# Altium footprint library PcbLib1.PcbLib: 36 footprints (part 1 of 3)
Each footprint in its own frame and in the unit in brackets; x right, y up, seen from the top. Pads: shape width x height; smd on the part's side, far side on the other; paste and mask are expansions set on the pad; w line width, h text height; cw(c..) or ccw(c..) is an arc to the next point about the centre after c.
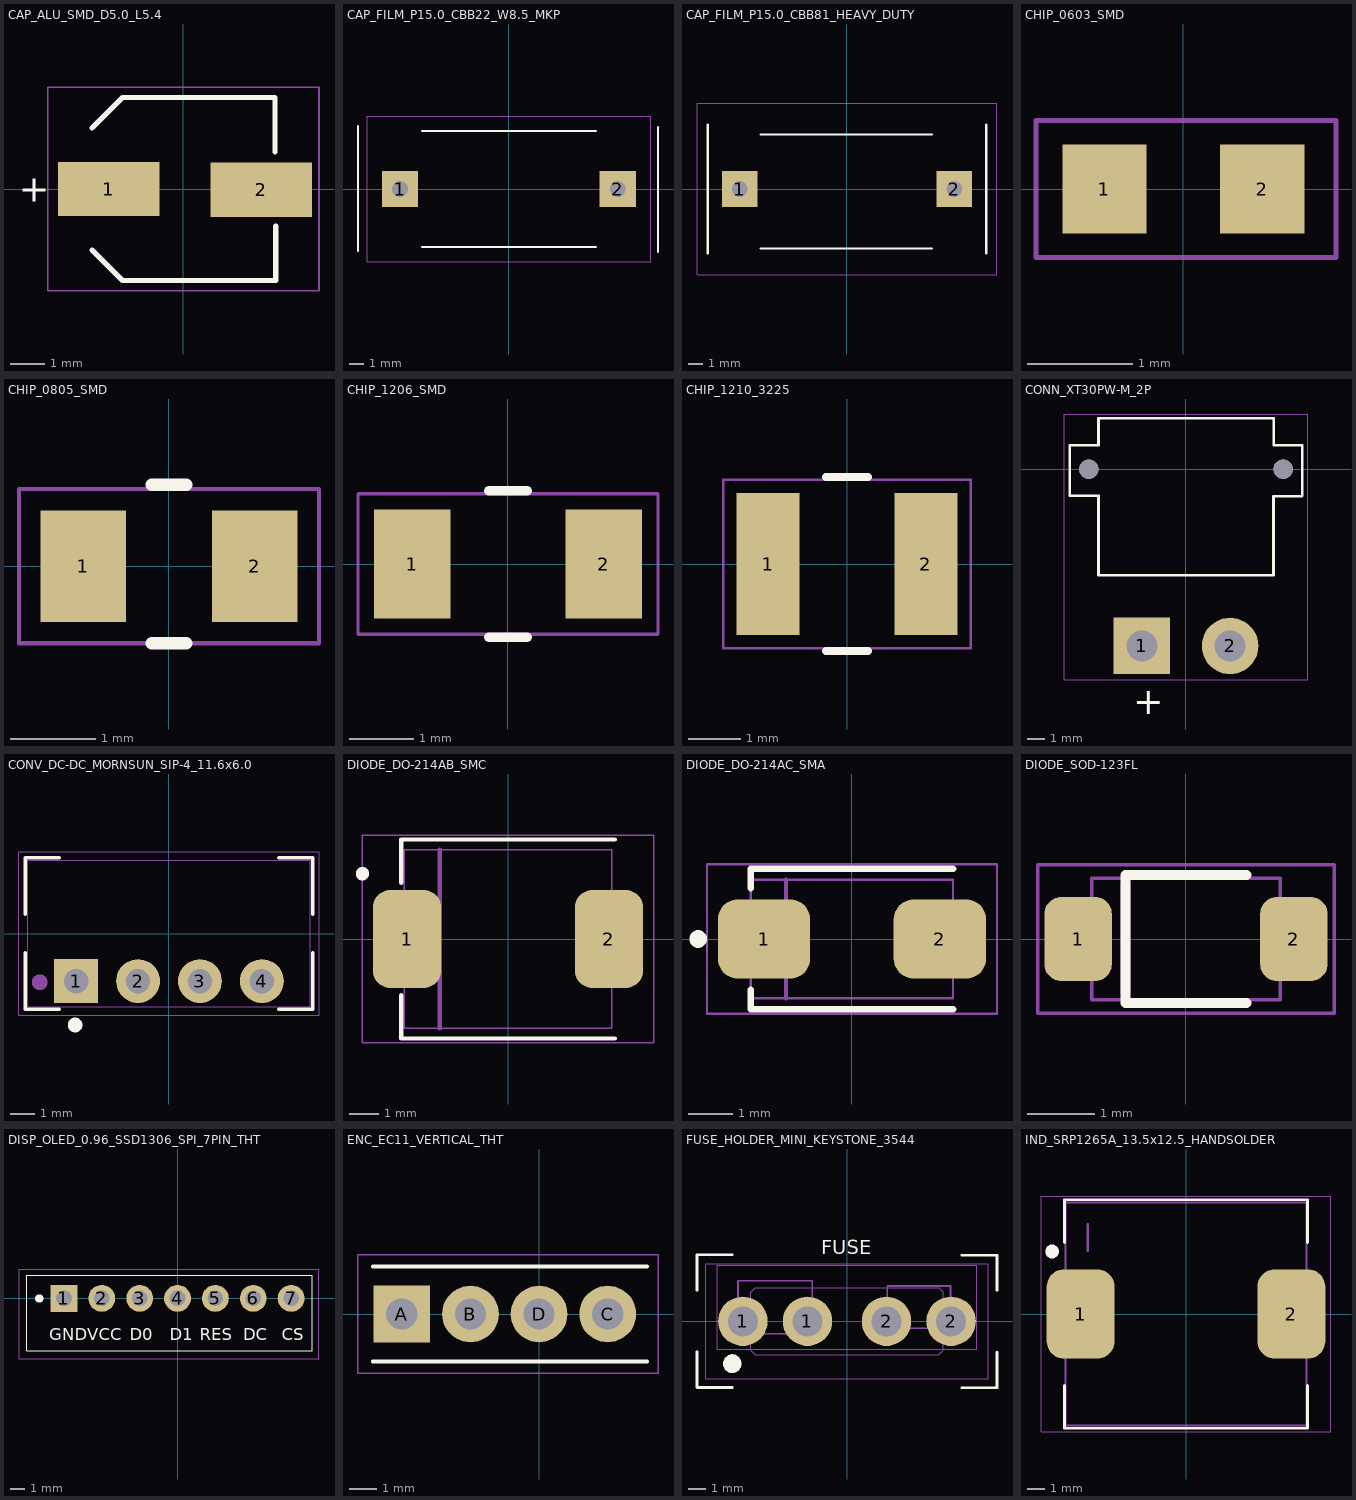
[diagram p0: the footprints below, top view; thin cyan lines are the x and y axes]

## CAP_ALU_SMD_D5.0_L5.4 [mm] "SMD Aluminum Electrolytic Capacitor, Dia 5.0mm, Length 5.4mm, Base 5.3x5.3mm, 100uF 16V, Pitch 4.4mm (Hand Solder)"
height 5.4
pads (2):
  rect 3x1.6 smd mask+0.05: 1(-2.2,0) 2(2.3,-0.025)
Top Overlay:
  lines w0.15: -2.7,-1.8 -1.8,-2.7 2.725,-2.7 2.725,-1.1 ; -2.7,1.8 -1.8,2.7 2.7,2.7 2.7,1.1
  text "+" at -4.85,-0.383 h0.8
  text ".Designator" at -4,3.867 h0.8
Top Courtyard (Mech15):
  lines w0.05: -4,-3 4,-3 4,3 -4,3 -4,-3
3D body "EEE-FC1H4R7R.STEP": height 5.8, standoff 0, extent -3,-2.65 3,2.65

## CAP_FILM_P15.0_CBB22_W8.5_MKP [mm] "Film Capacitor Metallized  (MKP/CBB22), Pitch 15mm, Body 18.0x8.5x14.0mm, ZVS Resonant Tank"
height 14.5
pads (2):
  rect 2.5x2.5 hole 1.1 mask+0.05: 1(-7.5,0) 2(7.5,0)
Top Overlay:
  lines w0.15: -10.4,-4.25 -10.4,-2.1 -10.4,2.2 -10.4,4.35 ; -6,-4 6,-4 ; -6,4 6,4 ; 10.275,-4.325 10.275,-2.175 10.275,2.125 10.275,4.275
  text ".Designator" at -10.35,6.816 h2
Top Courtyard (Mech15):
  lines w0.05: -9.775,-5 9.775,-5 9.775,5 -9.775,5 -9.775,-5
3D body "ECQE6184KF.STEP": height 18, standoff -18, extent -9.325,-3.9 9.175,4.1

## CAP_FILM_P15.0_CBB81_HEAVY_DUTY [mm] "Radial Film Capacitor (Dipped Epoxy/Pillow Type). Pitch: 15.0mm. Optimized for CBB81"
height 22.5
pads (2):
  rect 2.5x2.5 hole 1.1 mask+0.05: 1(-7.5,0) 2(7.5,0)
Top Overlay:
  lines w0.15: -9.75,-4.5 -9.75,4.5 ; -6.05,-4.175 5.95,-4.175 ; -6.05,3.825 5.95,3.825 ; 9.75,-4.5 9.75,4.5
  text ".Designator" at -10.425,7.191 h2
Top Courtyard (Mech15):
  lines w0.05: -10.5,-6 10.5,-6 10.5,6 -10.5,6 -10.5,-6
3D body "ECQE6224KF.STEP": height 19, standoff -17.5, extent -9.25,-4.525 9.25,4.475

## CHIP_0603_SMD [mm] "Chip Component 0603 (1608 Metric), Hand Soldering Extended Pads (0.8x0.85mm, Pitch 1.5mm), IPC-7351"
height 0.8
pads (2):
  rect 0.8x0.85 smd mask+0.05: 1(-0.75,0) 2(0.75,0)
Top Overlay:
  text ".Designator" at -3.605,1.203 h0.7
Top Courtyard (Mech15):
  lines w0.05: -1.4,-0.65 -1.4,0.65 1.45,0.65 1.45,-0.65 -1.4,-0.65
3D body "VJ0603D110KXCAP.STEP": height 0.8, standoff 0, extent -0.825,-0.475 0.775,0.465

## CHIP_0805_SMD [mm] "Chip Component 0805 (2012 Metric), IPC-7351 Level B (Nominal), Pad 1.0x1.3mm, Pitch 2.0mm"
height 1.25
pads (2):
  rect 1x1.3 smd mask+0.05: 1(-1,0) 2(1,0)
Top Overlay:
  lines w0.15: -0.2,-0.9 0.2,-0.9 ; -0.2,0.95 0.2,0.95
  text ".Designator" at -3.58,1.478 h0.7
Top Courtyard (Mech15):
  lines w0.05: -1.75,-0.9 1.75,-0.9 1.75,0.9 -1.75,0.9 -1.75,-0.9
3D body "Download_STP_8850121070xx+%28rev1%29.stp": height 1.22, standoff -0.03, extent -1,-0.625 1,0.625

## CHIP_1206_SMD [mm] "Chip Component 1206 (3216 Metric), IPC-7351 Level B (Nominal), Pad 1.2x1.7mm, Pitch 3.0mm"
height 1.5
pads (2):
  rect 1.2x1.7 smd mask+0.05: 1(-1.5,0) 2(1.5,0)
Top Overlay:
  lines w0.15: -0.3,-1.15 0.3,-1.15 ; -0.3,1.15 0.3,1.15
  text ".Designator" at -3.655,1.728 h0.7
Top Courtyard (Mech15):
  lines w0.05: -2.35,-1.1 2.35,-1.1 2.35,1.1 -2.35,1.1 -2.35,-1.1
3D body "Download_STP_885012xx80xx+%28rev1%29.stp": height 0.8, standoff 0, extent -1.6,-0.8 1.6,0.8

## CHIP_1210_3225 [mm] "Chip Component 1210 (3225 Metric), IPC-7351 Level B (Nominal), Pad 1.2x2.7mm, Pitch 3.0mm"
height 2
pads (2):
  rect 1.2x2.7 smd mask+0.05: 1(-1.5,0) 2(1.5,0)
Top Overlay:
  lines w0.15: -0.4,-1.65 0.4,-1.65 ; -0.4,1.65 0.4,1.65
  text ".Designator" at -4.1,2.417 h0.8
Top Courtyard (Mech15):
  lines w0.05: -2.35,-1.6 2.35,-1.6 2.35,1.6 -2.35,1.6 -2.35,-1.6
3D body "Download_STP_885012xx90xx+%28rev1%29.stp": height 1.22, standoff -0.03, extent -1.6,-1.25 1.6,1.25

## CONN_XT30PW-M_2P [mm] "DC Power Connector, Male 90° (Right Angle) PCB Mount, 2-Pin, Pitch 5.0mm, 30A Cont. / 50A Peak, with Locating Pins, Amass XT30PW-M"
height 5
pads (4):
  rect 3.2x3.2 hole 1.75 mask+0.05: 1(-2.5,-10)
  round 3.2 hole 1.75 mask+0.05: 2(2.5,-10)
  round 1.1 hole 1.1 unplated mask+0.05: ""(-5.5,0) ""(5.5,0)
Top Overlay:
  lines w0.15: -4.95,-1.525 -4.95,-6 4.95,-6 4.95,-1.537 ; -4.95,-1.5 -6.575,-1.5 -6.575,1.35 -4.95,1.35 -4.95,2.875 4.975,2.875 4.975,1.35 6.562,1.35 ; 4.962,-1.525 6.55,-1.525 6.575,-1.5 6.575,1.35
  text ".Designator" at -5.15,3.758 h1
  text "+" at -2.975,-13.85 h1.5
Top Assembly:
  text ".Designator" at -5,0.483 h1
Top Courtyard (Mech15):
  lines w0.05: -6.9,-11.925 6.901,-11.925 6.901,3.125 -6.9,3.125 -6.9,-11.925
3D body "XT30PW-M--3DModel-STEP-269445.STEP": height 5, standoff -2, extent -6.65,-11 6.65,2.95

## CONV_DC-DC_MORNSUN_SIP-4_11.6x6.0 [mm] "Isolated DC-DC Converter 1W, SIP-4 Package, Mornsun B_S-1WR3 / E_S-1WR3 Series, Body 11.60x6.00x10.16mm, Pitch 2.54mm, 3kV Isolation"
height 10.5
pads (4):
  rect 1.8x1.8 hole 1 mask+0.05: 1(-3.81,-1.95)
  round 1.8 hole 1 mask+0.05: 2(-1.27,-1.95) 3(1.27,-1.95) 4(3.81,-1.95)
Top Overlay:
  circle w0.5: c-3.85,-3.75 r0.05
  lines w0.15: -5.9,-0.8 -5.9,-3.1 -4.5,-3.1 ; -5.9,0.8 -5.9,3.1 -4.5,3.1 ; 4.5,-3.1 5.9,-3.1 5.9,-0.8 ; 4.5,3.1 5.9,3.1 5.9,0.8
Top Courtyard:
  lines w0.05: -6.15,-3.35 6.15,-3.35 6.15,3.35 -6.15,3.35 -6.15,-3.35
Top Assembly:
  circle w0.6: c-5.3,-2 r0.025
  lines w0.05: -5.8,-3 5.8,-3 5.8,3 -5.8,3 -5.8,-3
  text ".Designator" at -3.999,0.533 h0.8
3D body "SIP4_B_S-1WR3_MNS.step": height 10.66, standoff -4.99, extent -5.804,-3 5.804,2.994

## DIODE_DO-214AB_SMC [mm] "DO-214AB (SMC) Surface Mount Diode, 2-Lead, Body 7.0x6.0mm, Total Span 8.0mm, IPC-7351 Nominal"
height 2.62
pads (2):
  rrect50% 2.3x3.3 smd mask+0.05: 1(-3.4,0) 2(3.4,0)
Top Overlay:
  circle w0.4: c-4.9,2.2 r0.025
  lines w0.15: -3.6,-1.9 -3.6,-3.35 3.6,-3.35 ; -3.6,1.9 -3.6,3.35 3.6,3.35
  text ".Designator" at -3.83,4.087 h0.8
Top Assembly:
  lines w0.05: -3.5,-3 3.5,-3 3.5,3 -3.5,3 -3.5,-3
  lines w0.15: -2.3,-3 -2.3,3
  text ".Designator" at -4.205,-0.363 h0.8
Top Courtyard (Mech15):
  lines w0.05: -4.9,-3.5 4.9,-3.5 4.9,3.5 -4.9,3.5 -4.9,-3.5
3D body "S5J (1).STEP": height 2.23, standoff 0.03, extent -3.95,-3.1 3.95,2.7

## DIODE_DO-214AC_SMA [mm] "DO-214AC (SMA) Surface Mount Diode, 2-Lead, Body 4.6x2.8mm, Total Span 5.6mm, IPC-7351 Nominal"
pads (2):
  rrect50% 2.1x1.8 smd mask+0.05: 1(-2,0) 2(2,0)
Top Overlay:
  circle w0.35: c-3.5,0 r0.025
  lines w0.15: -2.3,-1.15 -2.3,-1.6 2.3,-1.6 ; -2.3,1.15 -2.3,1.6 2.3,1.6
  text ".Designator" at -3.45,2.308 h0.7
Top Assembly:
  lines w0.05: -2.3,-1.35 2.3,-1.35 2.3,1.35 -2.3,1.35 -2.3,-1.35
  lines w0.1: -1.5,-1.35 -1.5,1.35
  text ".Designator" at -3.075,-0.25 h0.6
Top Courtyard (Mech15):
  lines w0.05: -3.3,-1.7 3.3,-1.7 3.3,1.7 -3.3,1.7 -3.3,-1.7
3D body "ES1J.STEP": height 2.17, standoff 0, extent -2.5,-1.35 2.55,1.35

## DIODE_SOD-123FL [mm] "SOD-123FL Surface Mount Diode, Flat Lead, 2-Lead, Pitch 3.20mm, Body 2.8x1.6mm, Reflow Land Pattern"
pads (2):
  rrect50% 1x1.25 smd paste-0.025 mask+0.05: 1(-1.6,0) 2(1.6,0)
Top Overlay:
  lines w0.15: 0.9,-0.95 -0.9,-0.95 -0.9,0.95 0.9,0.95
  text ".Designator" at -3.225,1.558 h0.7
Top Assembly:
  lines w0.05: -1.4,-0.9 1.4,-0.9 1.4,0.9 -1.4,0.9 -1.4,-0.9
  lines w0.15: -0.9,-0.8 -0.9,0.8
  text ".Designator" at -2.32,-0.153 h0.5
Top Courtyard (Mech15):
  lines w0.05: -2.2,-1.1 2.2,-1.1 2.2,1.1 -2.2,1.1 -2.2,-1.1
3D body "SL1D.STEP": height 1.39, standoff 0.03, extent -1.875,-0.929 1.825,0.915

## DISP_OLED_0.96_SSD1306_SPI_7PIN_THT [mm] "0.96 inch OLED Display Module, SSD1306, 128x64, 7-Pin 2.54mm SPI Header, 4x M2 Mounting Holes (23.3x23.8mm Pitch), Body 27.30x27.80mm"
height 8.5
pads (7):
  rect 1.8x1.8 hole 1.05 mask+0.05: 1(-7.62,0)
  round 1.8 hole 1.05 mask+0.05: 2(-5.08,0) 3(-2.54,0) 4(0,0) 5(2.54,0) 6(5.08,0) 7(7.62,0)
Top Overlay:
  circle w0.5: c-9.275,0 r0.025
  lines w0.05: -10.1,-3.5 9.025,-3.5 9.025,1.55 -10.1,1.55 -10.1,-3.5
  text "CS" at 6.984,-2.8 h0.8
  text "DC" at 4.409,-2.8 h0.8
  text "RES" at 1.484,-2.8 h0.8
  text "D1" at -0.533,-2.8 h0.8
  text "D0" at -3.216,-2.8 h0.8
  text "VCC" at -6.066,-2.8 h0.8
  text "GND" at -8.616,-2.8 h0.8
Top Assembly:
  text ".Designator" at -5.633,3.042 h1
Top Courtyard (Mech15):
  lines w0.05: -10.635,-4.05 9.49,-4.05 9.49,1.95 -10.635,1.95 -10.635,-4.05

## ENC_EC11_VERTICAL_THT [mm] "Rotary Encoder EC11 with Push Switch, Vertical THT, Body 11.8x14.5mm, Bushing M7x0.75, 2x Side Mounting Brackets"
pads (4):
  rect 2.1x2.1 hole 1.15 mask+0.05: A(-5.08,0)
  round 2.1 hole 1.15 mask+0.05: B(-2.54,0) C(2.54,0) D(0,0)
Top Overlay:
  lines w0.15: -6.15,-1.75 4,-1.75 ; -6.15,1.75 4,1.75
  text ".Designator" at -5.255,2.737 h0.8
Top Courtyard (Mech15):
  lines w0.05: -6.7,-2.2 4.4,-2.2 4.4,2.201 -6.7,2.201 -6.7,-2.2

## FUSE_HOLDER_MINI_KEYSTONE_3544 [mm] "Mini Automotive Blade Fuse Clip Assembly, Keystone 3544, 4-Pin In-Line THT, Hole D=1.7mm, Body 14.68x4.75mm, Dual-Pin per Terminal for 20-30A"
pads (4):
  round 2.8 hole 1.7 mask+0.05: 1(-5.9,0) 1(-2.24,0) 2(2.24,0) 2(5.9,0)
Top Overlay:
  circle w0.05: c-6.5,-2.4 r0.5
  region: -6.5,-2.9 -6.599,-2.9 -6.783,-2.824 -6.924,-2.683 -7,-2.499 -7,-2.4 -7,-2.301 -6.924,-2.117 -6.783,-1.976 -6.599,-1.9 -6.5,-1.9 -6.401,-1.9 -6.217,-1.976 -6.076,-2.117 -6,-2.301 -6,-2.4 -6,-2.499 -6.076,-2.683 -6.217,-2.824 -6.401,-2.9
  lines w0.15: -8.5,-3.75 -6.5,-3.75 ; -8.5,-3.725 -8.5,-1.725 ; -8.5,1.75 -8.5,3.75 ; -8.5,3.775 -6.5,3.775 ; 6.5,-3.775 8.5,-3.775 ; 6.5,3.75 8.5,3.75 8.5,1.75 ; 8.5,-3.75 8.5,-1.75
  text "FUSE" at -1.466,3.8 h0.8
Top Assembly:
  lines w0.05: -7.34,-1.575 7.34,-1.575 7.34,3.175 -7.34,3.175 -7.34,-1.575 ; -5.45,-1.646 -5.196,-1.9 5.196,-1.9 5.45,-1.646 5.45,1.646 5.196,1.9 -5.196,1.9 -5.45,1.646 -5.45,-1.646
  lines w0.1: -6.17,-0.7 -1.97,-0.7 -1.97,2.3 -6.17,2.3 -6.17,-0.7 ; 2.278,-0.392 5.862,-0.392 5.862,1.992 2.278,1.992 2.278,-0.392
  text ".Designator" at -3.999,3.933 h0.8
Top Courtyard (Mech15):
  lines w0.05: -8,-3.25 8,-3.25 8,3.25 -8,3.25 -8,-3.25
3D body "9720094.stp": height 20.2, standoff 0.5, extent -9.15,-1.775 9.85,3.225

## IND_SRP1265A_13.5x12.5_HANDSOLDER [mm] "Shielded Power Inductor, Body 13.5x12.5x6.2mm, Bourns SRP1265A Series, Extended Pads (3.8x5.0mm, 8.0mm Gap) for Manual Soldering"
pads (2):
  rrect50% 3.8x5 smd mask+0.05: 1(-5.9,0) 2(5.9,0)
Top Overlay:
  circle w0.6: c-7.5,3.5 r0.079
  lines w0.15: -6.8,-4 -6.8,-6.4 6.8,-6.4 6.8,-4 ; -6.8,4 -6.8,6.4 6.8,6.4 6.8,4
  text ".Designator" at -5.025,4.108 h1
Top Assembly:
  lines w0.1: -6.75,-6.25 6.75,-6.25 6.75,6.25 -6.75,6.25 -6.75,-6.25
  lines w0.15: -5.5,3.55 -5.5,5.025
  text ".Designator" at 0.15,0.483 h1
Top Courtyard (Mech15):
  lines w0.05: -8.1,-6.6 8.1,-6.6 8.1,6.6 -8.1,6.6 -8.1,-6.6
3D body "SRP1265A-470M--3DModel-STEP-510211.STEP": height 6.5, standoff 0, extent -6.75,-6.25 6.75,6.25